# Altium schematic symbol library GENERIC_D_LED.Schlib: 1 symbol
Pins are listed as number, name and electrical type; pins without a type are passive.

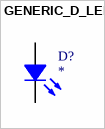
[diagram p0: symbol GENERIC_D_LED]

## GENERIC_D_LED
designator D?
Default Diode
pins: 1 K, 2 A